# EAGLE library part ADM3053BRWZ (library untitled)
IC, DIG ISOLATOR
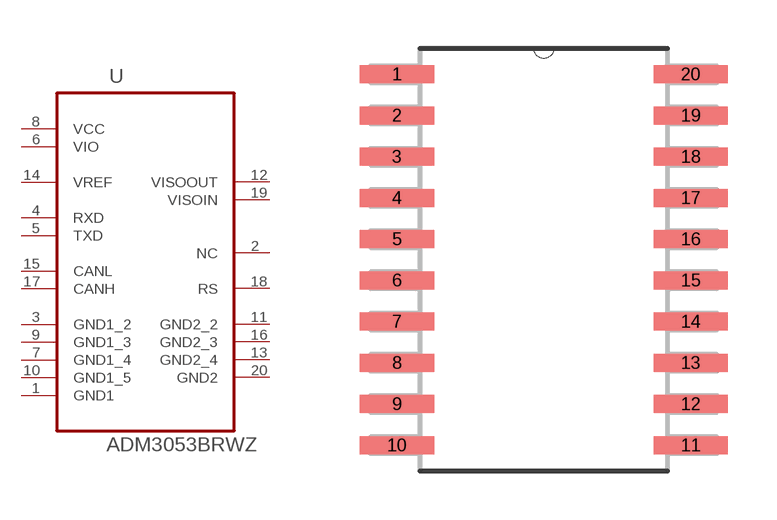
[diagram p0: symbol with the pads of SOIC127P1032X265-20N; footprint SOIC127P1032X265-20N]

Designator prefix U

## ADM3053BRWZ (MPN: ADM3053BRWZ; OC_FARNELL: 2062027; OC_NEWARK: 55T8905; PACKAGE: 20-Lead SOIC_W; SUPPLIER: Analog Devices)  [SOIC127P1032X265-20N]
1  GND1  pas
2  NC  pas
3  GND1_2  pas
4  RXD  pas
5  TXD  pas
6  VIO  pas
7  GND1_4  pas
8  VCC  pas
9  GND1_3  pas
10  GND1_5  pas
11  GND2_2  pas
12  VISOOUT  pas
13  GND2_4  pas
14  VREF  pas
15  CANL  pas
16  GND2_3  pas
17  CANH  pas
18  RS  pas
19  VISOIN  pas
20  GND2  pas

## Footprint SOIC127P1032X265-20N (pad centres in mm)
smd 2.286 x 0.559: 1 -4.521,5.715; 2 -4.521,4.445; 3 -4.521,3.175; 4 -4.521,1.905; 5 -4.521,0.635; 6 -4.521,-0.635; 7 -4.521,-1.905; 8 -4.521,-3.175; 9 -4.521,-4.445; 10 -4.521,-5.715; 11 4.521,-5.715; 12 4.521,-4.445; 13 4.521,-3.175; 14 4.521,-1.905; 15 4.521,-0.635; 16 4.521,0.635; 17 4.521,1.905; 18 4.521,3.175; 19 4.521,4.445; 20 4.521,5.715